# EAGLE library part PIC32MX250F128B (library pcb_library)
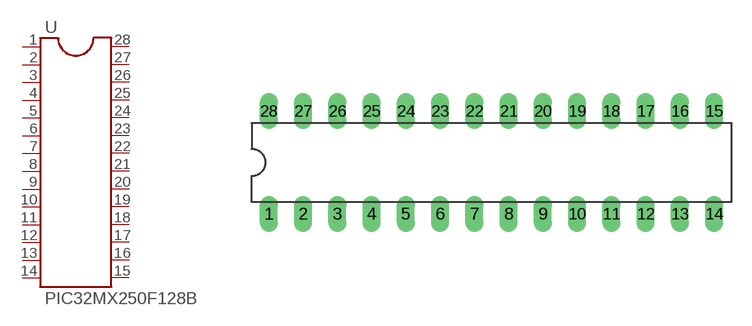
[diagram p11: symbol with the pads of PIC32MX250F128B; footprint PIC32MX250F128B]

Designator prefix -

## PIC32MX250F128B  [PIC32MX250F128B]
1  1.MCLR  pas
2  2.A0  pas
3  3.A1  pas
4  4.PGD  pas
5  5.PGC  pas
6  6.B2  pas
7  7.B3  pas
8  8.GND  pas
9  9.OSC1  pas
10  10.OSC2  pas
11  11.B4/USER  pas
12  12.A4/LED  pas
13  13.VDD  pas
14  14.USBID/B5  pas
15  15.VBUS  pas
16  16.B7  pas
17  17.B8  pas
18  18.B9  pas
19  19.VSS  pas
20  20.VCAP  pas
21  21.D+/B10  pas
22  22.D-/B11  pas
23  23.VUSB3V3  pas
24  24.B13  pas
25  25.B14  pas
26  26.B15  pas
27  27.AVSS  pas
28  28.AVDD  pas

## Footprint PIC32MX250F128B (pad centres in mm)
Dual In Line Package Small
drill 0.813 long: 1 -16.51,-3.81; 2 -13.97,-3.81; 3 -11.43,-3.81; 4 -8.89,-3.81; 5 -6.35,-3.81; 6 -3.81,-3.81; 7 -1.27,-3.81; 8 1.27,-3.81; 9 3.81,-3.81; 10 6.35,-3.81; 11 8.89,-3.81; 12 11.43,-3.81; 13 13.97,-3.81; 14 16.51,-3.81; 15 16.51,3.81; 16 13.97,3.81; 17 11.43,3.81; 18 8.89,3.81; 19 6.35,3.81; 20 3.81,3.81; 21 1.27,3.81; 22 -1.27,3.81; 23 -3.81,3.81; 24 -6.35,3.81; 25 -8.89,3.81; 26 -11.43,3.81; 27 -13.97,3.81; 28 -16.51,3.81